# Altium schematic symbol library kmilo17pet-PIC16_Part2.SchLib: 1569 symbols (part 51 of 56)
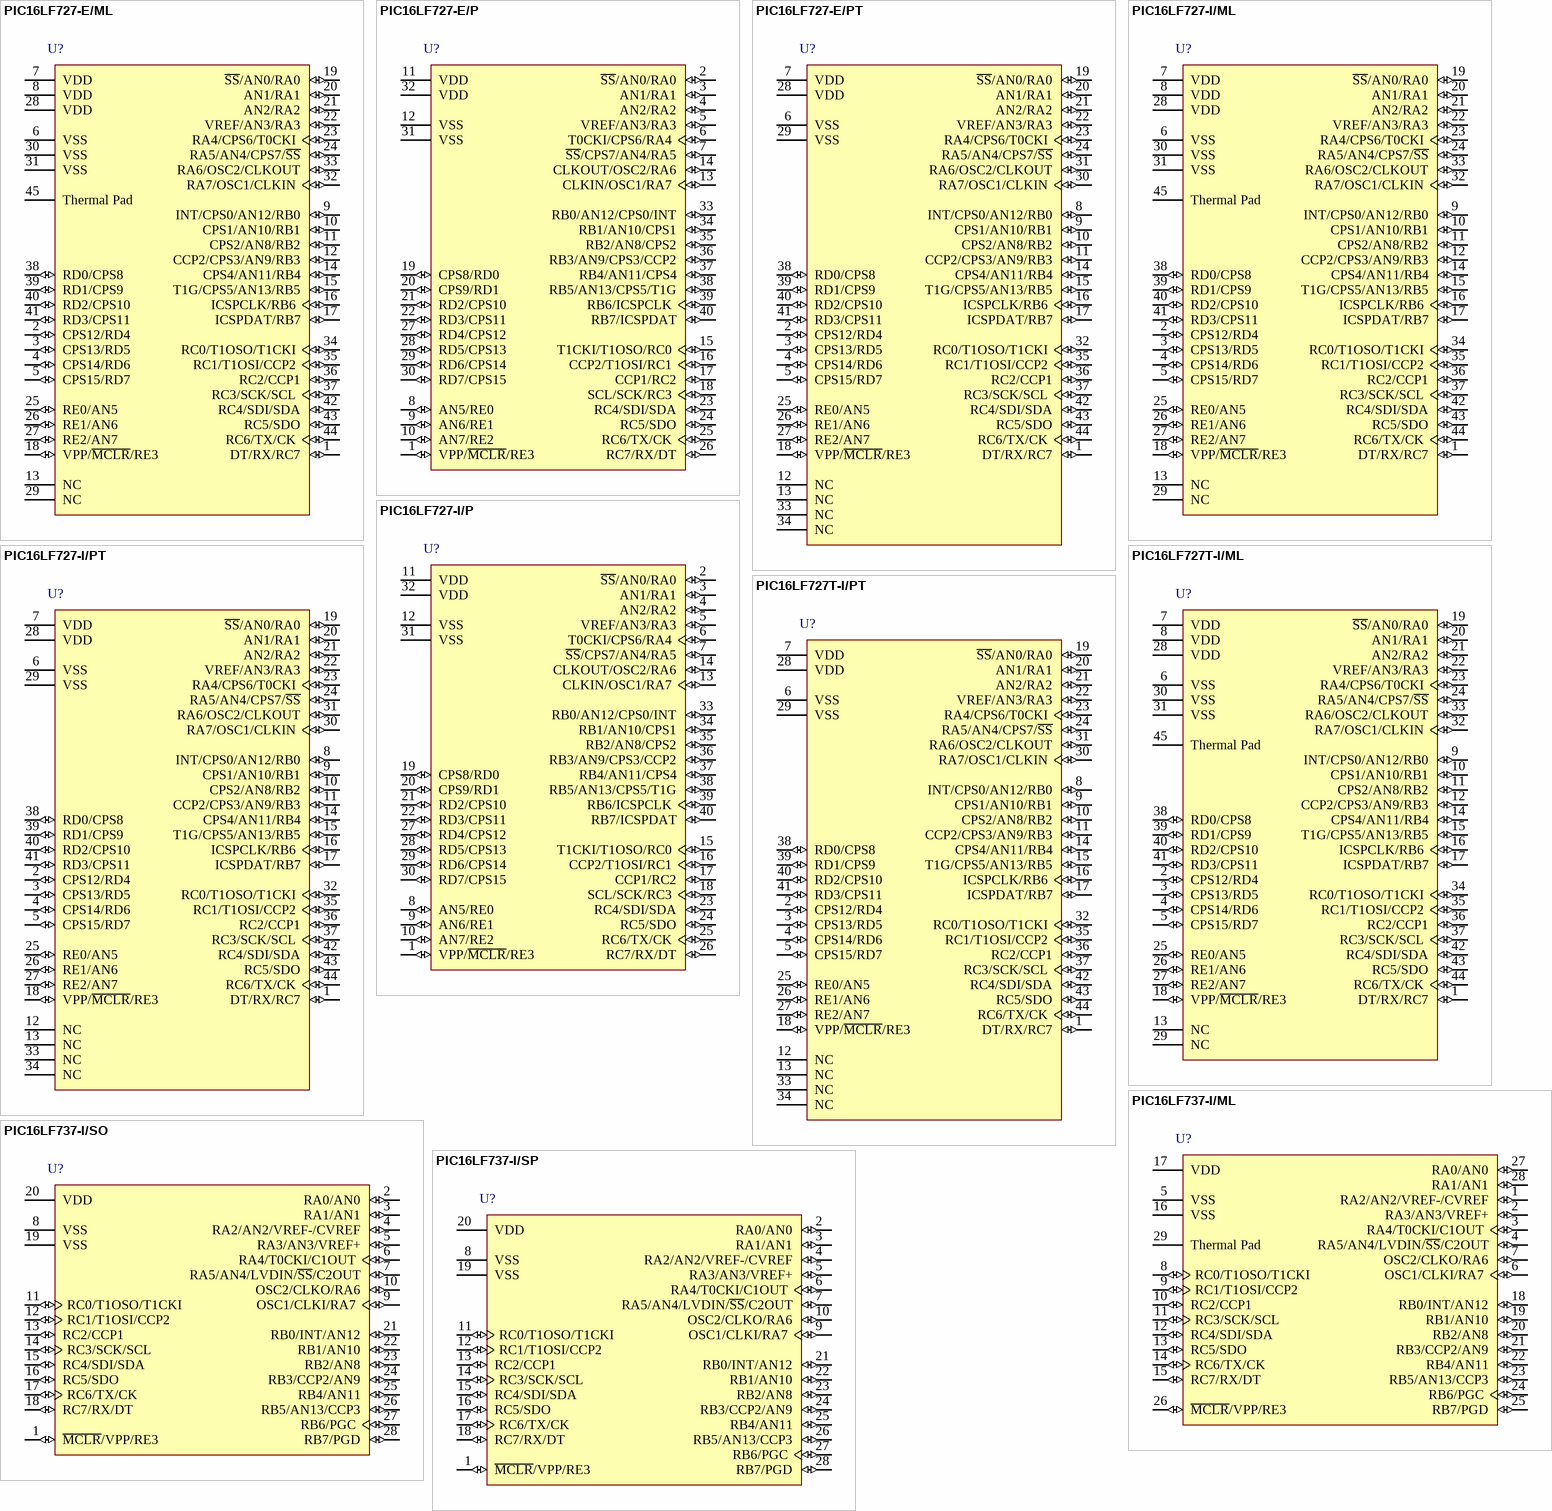
[diagram p175: symbols PIC16LF727-E/ML to PIC16LF737-I/SP]

## PIC16LF737-I/SP
designator U?
8-Bit CMOS FLASH Microcontroller with 10-Bit A/D and nanoWatt Technology, 4K (x14-Bit words) FLASH, 368 Bytes SRAM, 28-Pin PDIP 300mil, Extended VDD Range, Industrial Temperature; Manufacturer: Microchip; PartNumber: PIC16LF737-I/SP; Note: RB3 is the alternate pin for the CCP2 pin multiplexing.; DatasheetVersion: revC, Oct-2004; PackageVersion: revBB, Aug-2009; PackageReference: SPDIP300-SP28; PackageDescription: 28-Lead Skinny Plastic Dual In-Line (SP) - 300 mil Body [SPDIP]; Supplier 1: Digi-Key; Supplier Part Number 1: PIC16LF737-I/SP-ND; Supplier 2: Mouser; Supplier Part Number 2: 579-PIC16LF737-I/SP; ComponentLink1Description: Manufacturer URL; ComponentLink1URL: http://www.microchip.com/; ComponentLink2Description: Datasheet; ComponentLink2URL: http://ww1.microchip.com/downloads/en/DeviceDoc/30498c.pdf; ComponentLink3Description: Package Specification; ComponentLink3URL: http://www.microchip.com/stellent/groups/techpub_sg/documents/packagingspec/en012702.pdf
footprint SPDIP300-SP28 (DIP, 28-Leads, Row Spacing 7.62mm, Pitch 2.54mm, Body 34.9x6.8mm)
pins: 1 ~{MCLR}/VPP/RE3 (io), 2 RA0/AN0 (io), 3 RA1/AN1 (io), 4 RA2/AN2/VREF-/CVREF (io), 5 RA3/AN3/VREF+ (io), 6 RA4/T0CKI/C1OUT (io), 7 RA5/AN4/LVDIN/~{SS}/C2OUT (io), 8 VSS (power), 9 OSC1/CLKI/RA7 (io), 10 OSC2/CLKO/RA6 (io), 11 RC0/T1OSO/T1CKI (io), 12 RC1/T1OSI/CCP2 (io), 13 RC2/CCP1 (io), 14 RC3/SCK/SCL (io), 15 RC4/SDI/SDA (io), 16 RC5/SDO (io), 17 RC6/TX/CK (io), 18 RC7/RX/DT (io), 19 VSS (power), 20 VDD (power), 21 RB0/INT/AN12 (io), 22 RB1/AN10 (io), 23 RB2/AN8 (io), 24 RB3/CCP2/AN9 (io), 25 RB4/AN11 (io), 26 RB5/AN13/CCP3 (io), 27 RB6/PGC (io), 28 RB7/PGD (io)

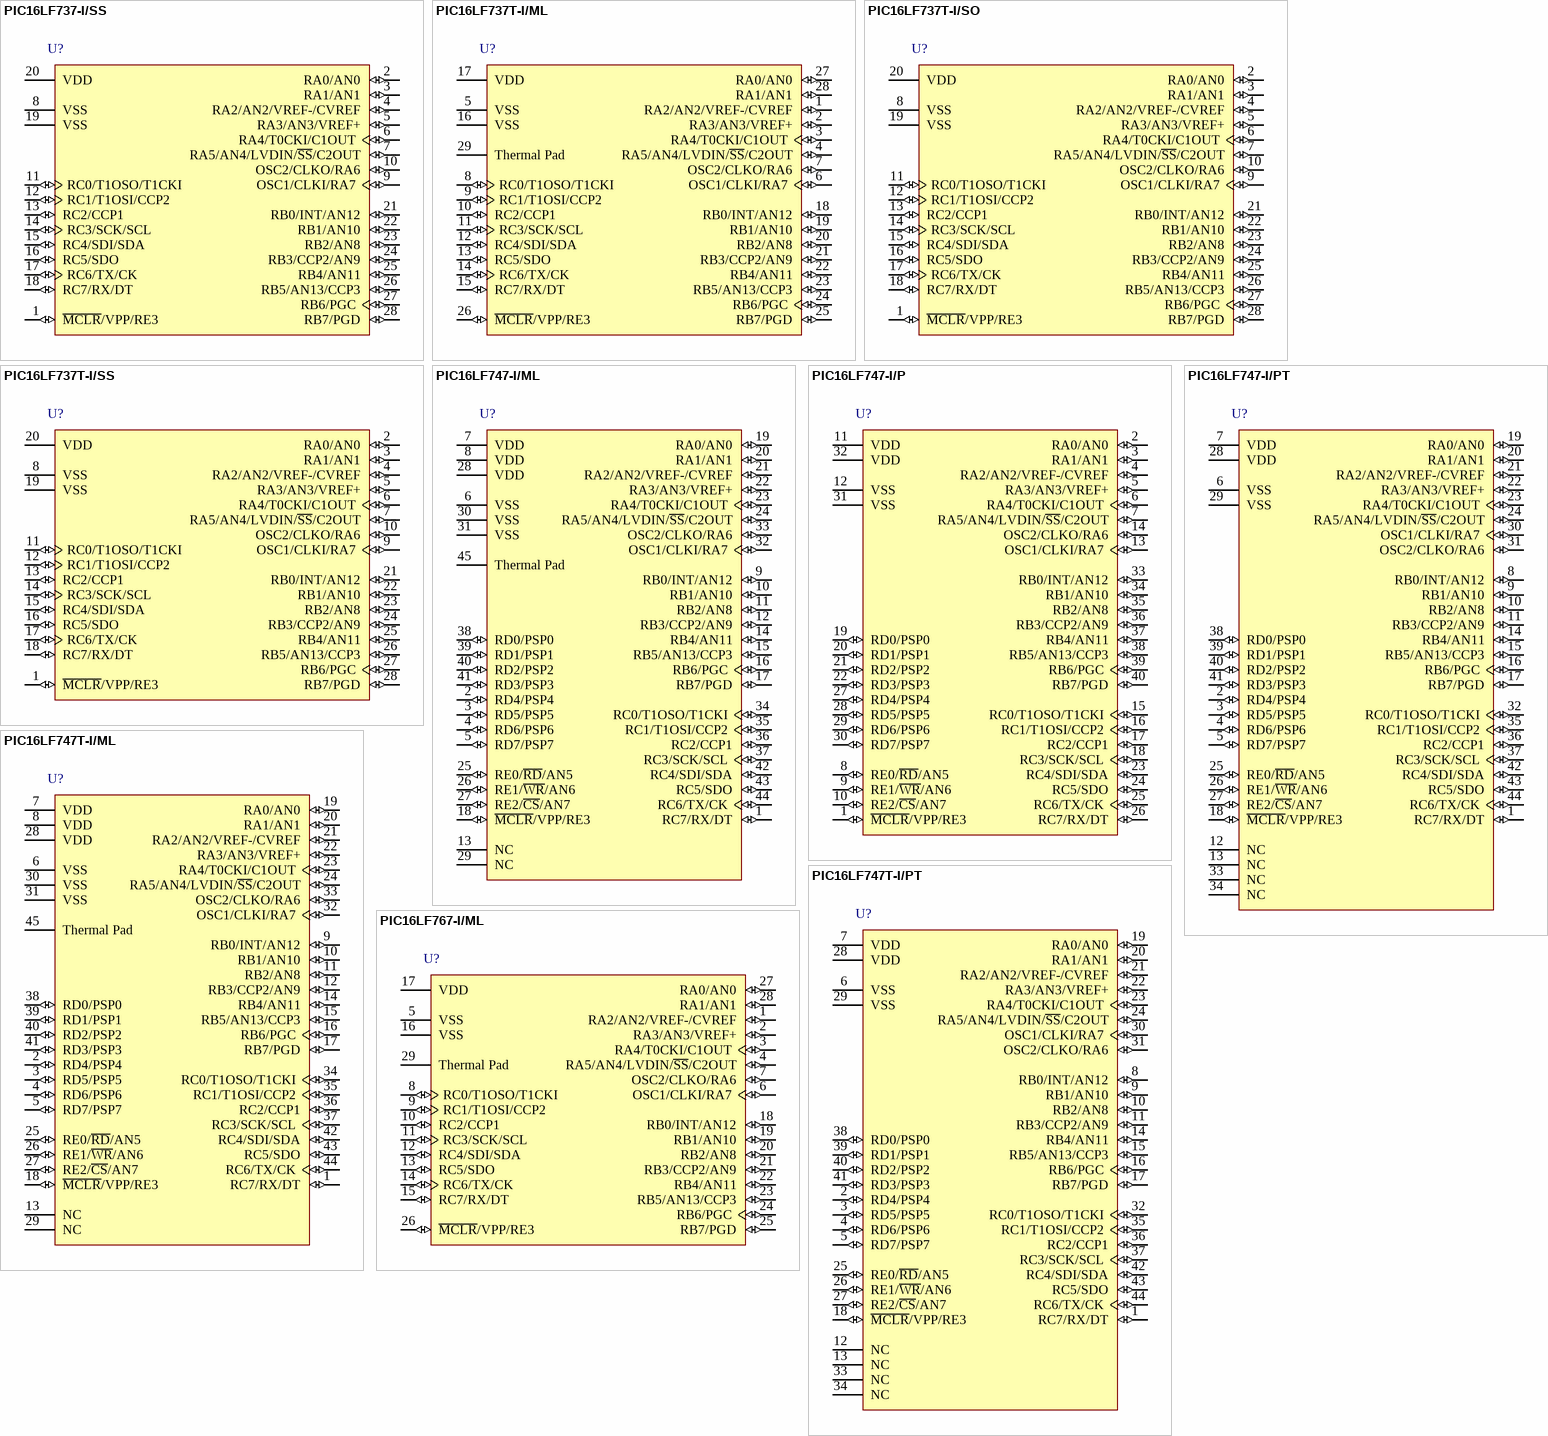
[diagram p109: symbols PIC16LF737-I/SS to PIC16LF767-I/ML]

## PIC16LF737-I/SS
designator U?
8-Bit CMOS FLASH Microcontroller with 10-Bit A/D and nanoWatt Technology, 4K (x14-Bit words) FLASH, 368 Bytes SRAM, 28-Pin SSOP, Extended VDD Range, Industrial Temperature; Manufacturer: Microchip; PartNumber: PIC16LF737-I/SS; DatasheetVersion: revC, Oct-2004; PackageVersion: revBB, Aug-2009; PackageReference: SSOP-SS28; PackageDescription: 28-Lead Plastic Shrink Small Outline (SS) - 5.3mm Body [SSOP]; Supplier 1: Digi-Key; Supplier Part Number 1: PIC16LF737-I/SS-ND; Supplier 2: Farnell; Supplier Part Number 2: 1847309; Supplier 3: Newark; Supplier Part Number 3: 61H5216; Supplier 4: Mouser; Supplier Part Number 4: 579-PIC16LF737-I/SS; Code_JEDEC: MS-150; ComponentLink1Description: Manufacturer URL; ComponentLink1URL: http://www.microchip.com/; ComponentLink2Description: Datasheet; ComponentLink2URL: http://ww1.microchip.com/downloads/en/DeviceDoc/30498c.pdf; ComponentLink3Description: Package Specification; ComponentLink3URL: http://www.microchip.com/stellent/groups/techpub_sg/documents/packagingspec/en012702.pdf
footprint SSOP-SS28_N (SOP, 28-Leads, Body 10.2x5.2mm, Pitch 0.65mm, IPC Medium Density)
footprint SSOP-SS28_L (SOP, 28-Leads, Body 10.2x5.2mm, Pitch 0.65mm, IPC High Density)
footprint SSOP-SS28_M (SOP, 28-Leads, Body 10.2x5.2mm, Pitch 0.65mm, IPC Low Density)
pins: 1 ~{MCLR}/VPP/RE3 (io), 2 RA0/AN0 (io), 3 RA1/AN1 (io), 4 RA2/AN2/VREF-/CVREF (io), 5 RA3/AN3/VREF+ (io), 6 RA4/T0CKI/C1OUT (io), 7 RA5/AN4/LVDIN/~{SS}/C2OUT (io), 8 VSS (power), 9 OSC1/CLKI/RA7 (io), 10 OSC2/CLKO/RA6 (io), 11 RC0/T1OSO/T1CKI (io), 12 RC1/T1OSI/CCP2 (io), 13 RC2/CCP1 (io), 14 RC3/SCK/SCL (io), 15 RC4/SDI/SDA (io), 16 RC5/SDO (io), 17 RC6/TX/CK (io), 18 RC7/RX/DT (io), 19 VSS (power), 20 VDD (power), 21 RB0/INT/AN12 (io), 22 RB1/AN10 (io), 23 RB2/AN8 (io), 24 RB3/CCP2/AN9 (io), 25 RB4/AN11 (io), 26 RB5/AN13/CCP3 (io), 27 RB6/PGC (io), 28 RB7/PGD (io)

## PIC16LF737T-I/ML
designator U?
8-Bit CMOS Flash Microcontroller with 10-Bit A/D and nanoWatt Technology, 4K (x14-Bit words) Program Memory, 368 Bytes Data Memory, 25 I/O pins, 28-Pin QFN, Extended VDD Range, Industrial Temperature, Tape and Reel; Manufacturer: Microchip; PartNumber: PIC16LF737T-I/ML; Note: RB3 is the alternate pin for the CCP2 pin multiplexing.; DatasheetVersion: revC, Oct-2004; PackageVersion: revBB, Aug-2009; PackageReference: QFN-ML28; PackageDescription: 28-Lead Plastic Quad Flat, No Lead Package (ML) - 6x6 mm Body [QFN] with 0.55 mm Contact Length; Supplier 1: Digi-Key; Supplier Part Number 1: PIC16LF737T-I/ML-ND; Supplier 2: Mouser; Supplier Part Number 2: 579-PIC16LF737T-I/ML; Code_JEDEC: MO-220; ComponentLink1Description: Manufacturer URL; ComponentLink1URL: http://www.microchip.com/; ComponentLink2Description: Datasheet; ComponentLink2URL: http://ww1.microchip.com/downloads/en/DeviceDoc/30498c.pdf; ComponentLink3Description: Package Specification; ComponentLink3URL: http://www.microchip.com/stellent/groups/techpub_sg/documents/packagingspec/en012702.pdf
footprint QFN-ML28_N (QFN, 28-Leads, Body 6x6mm, Pitch 0.65mm, Thermal Pad 4.2x4.2mm, IPC Medium Density)
footprint QFN-ML28_L (QFN, 28-Leads, Body 6x6mm, Pitch 0.65mm, Thermal Pad 4.2x4.2mm, IPC High Density)
footprint QFN-ML28_M (QFN, 28-Leads, Body 6x6mm, Pitch 0.65mm, Thermal Pad 4.2x4.2mm, IPC Low Density)
pins: 1 RA2/AN2/VREF-/CVREF (io), 2 RA3/AN3/VREF+ (io), 3 RA4/T0CKI/C1OUT (io), 4 RA5/AN4/LVDIN/~{SS}/C2OUT (io), 5 VSS (power), 6 OSC1/CLKI/RA7 (io), 7 OSC2/CLKO/RA6 (io), 8 RC0/T1OSO/T1CKI (io), 9 RC1/T1OSI/CCP2 (io), 10 RC2/CCP1 (io), 11 RC3/SCK/SCL (io), 12 RC4/SDI/SDA (io), 13 RC5/SDO (io), 14 RC6/TX/CK (io), 15 RC7/RX/DT (io), 16 VSS (power), 17 VDD (power), 18 RB0/INT/AN12 (io), 19 RB1/AN10 (io), 20 RB2/AN8 (io), 21 RB3/CCP2/AN9 (io), 22 RB4/AN11 (io), 23 RB5/AN13/CCP3 (io), 24 RB6/PGC (io), 25 RB7/PGD (io), 26 ~{MCLR}/VPP/RE3 (io), 27 RA0/AN0 (io), 28 RA1/AN1 (io), 29 Thermal Pad

## PIC16LF737T-I/SO
designator U?
8-Bit CMOS FLASH Microcontroller with 10-Bit A/D and nanoWatt Technology, 4K (x14-Bit words) FLASH, 368 Bytes SRAM, 28-Pin SOIC, Extended VDD Range, Industrial Temperature, Tape and Reel; Manufacturer: Microchip; PartNumber: PIC16LF737T-I/SO; Note: RB3 is the alternate pin for the CCP2 pin multiplexing.; DatasheetVersion: revC, Oct-2004; PackageVersion: revBB, Aug-2009; PackageReference: SOIC-SO28; PackageDescription: 28-Lead Plastic Small Outline (SO) - Wide 7.50mm Body [SOIC]; Supplier 1: Digi-Key; Supplier Part Number 1: PIC16LF737T-I/SO-ND; Supplier 2: Mouser; Supplier Part Number 2: 579-PIC16LF737T-I/SO; Code_JEDEC: MS-013; ComponentLink1Description: Manufacturer URL; ComponentLink1URL: http://www.microchip.com/; ComponentLink2Description: Datasheet; ComponentLink2URL: http://ww1.microchip.com/downloads/en/DeviceDoc/30498c.pdf; ComponentLink3Description: Package Specification; ComponentLink3URL: http://www.microchip.com/stellent/groups/techpub_sg/documents/packagingspec/en012702.pdf
footprint SOIC-SO28_N (SOIC, 28-Leads, Body 17.9x7.5mm, Pitch 1.27mm, IPC Medium Density)
footprint SOIC-SO28_L (SOIC, 28-Leads, Body 17.9x7.5mm, Pitch 1.27mm, IPC High Density)
footprint SOIC-SO28_M (SOIC, 28-Leads, Body 17.9x7.5mm, Pitch 1.27mm, IPC Low Density)
pins: 1 ~{MCLR}/VPP/RE3 (io), 2 RA0/AN0 (io), 3 RA1/AN1 (io), 4 RA2/AN2/VREF-/CVREF (io), 5 RA3/AN3/VREF+ (io), 6 RA4/T0CKI/C1OUT (io), 7 RA5/AN4/LVDIN/~{SS}/C2OUT (io), 8 VSS (power), 9 OSC1/CLKI/RA7 (io), 10 OSC2/CLKO/RA6 (io), 11 RC0/T1OSO/T1CKI (io), 12 RC1/T1OSI/CCP2 (io), 13 RC2/CCP1 (io), 14 RC3/SCK/SCL (io), 15 RC4/SDI/SDA (io), 16 RC5/SDO (io), 17 RC6/TX/CK (io), 18 RC7/RX/DT (io), 19 VSS (power), 20 VDD (power), 21 RB0/INT/AN12 (io), 22 RB1/AN10 (io), 23 RB2/AN8 (io), 24 RB3/CCP2/AN9 (io), 25 RB4/AN11 (io), 26 RB5/AN13/CCP3 (io), 27 RB6/PGC (io), 28 RB7/PGD (io)

## PIC16LF737T-I/SS
designator U?
8-Bit CMOS FLASH Microcontroller with 10-Bit A/D and nanoWatt Technology, 4K (x14-Bit words) FLASH, 368 Bytes SRAM, 28-Pin SSOP, Extended VDD Range, Industrial Temperature, Tape and Reel; Manufacturer: Microchip; PartNumber: PIC16LF737T-I/SS; DatasheetVersion: revC, Oct-2004; PackageVersion: revBB, Aug-2009; PackageReference: SSOP-SS28; PackageDescription: 28-Lead Plastic Shrink Small Outline (SS) - 5.3mm Body [SSOP]; Supplier 1: Digi-Key; Supplier Part Number 1: PIC16LF737T-I/SS-ND; Supplier 2: Mouser; Supplier Part Number 2: 579-PIC16LF737T-I/SS; Code_JEDEC: MS-150; ComponentLink1Description: Manufacturer URL; ComponentLink1URL: http://www.microchip.com/; ComponentLink2Description: Datasheet; ComponentLink2URL: http://ww1.microchip.com/downloads/en/DeviceDoc/30498c.pdf; ComponentLink3Description: Package Specification; ComponentLink3URL: http://www.microchip.com/stellent/groups/techpub_sg/documents/packagingspec/en012702.pdf
footprint SSOP-SS28_N (SOP, 28-Leads, Body 10.2x5.2mm, Pitch 0.65mm, IPC Medium Density)
footprint SSOP-SS28_L (SOP, 28-Leads, Body 10.2x5.2mm, Pitch 0.65mm, IPC High Density)
footprint SSOP-SS28_M (SOP, 28-Leads, Body 10.2x5.2mm, Pitch 0.65mm, IPC Low Density)
pins: 1 ~{MCLR}/VPP/RE3 (io), 2 RA0/AN0 (io), 3 RA1/AN1 (io), 4 RA2/AN2/VREF-/CVREF (io), 5 RA3/AN3/VREF+ (io), 6 RA4/T0CKI/C1OUT (io), 7 RA5/AN4/LVDIN/~{SS}/C2OUT (io), 8 VSS (power), 9 OSC1/CLKI/RA7 (io), 10 OSC2/CLKO/RA6 (io), 11 RC0/T1OSO/T1CKI (io), 12 RC1/T1OSI/CCP2 (io), 13 RC2/CCP1 (io), 14 RC3/SCK/SCL (io), 15 RC4/SDI/SDA (io), 16 RC5/SDO (io), 17 RC6/TX/CK (io), 18 RC7/RX/DT (io), 19 VSS (power), 20 VDD (power), 21 RB0/INT/AN12 (io), 22 RB1/AN10 (io), 23 RB2/AN8 (io), 24 RB3/CCP2/AN9 (io), 25 RB4/AN11 (io), 26 RB5/AN13/CCP3 (io), 27 RB6/PGC (io), 28 RB7/PGD (io)

## PIC16LF747-I/ML
designator U?
8-Bit CMOS FLASH Microcontroller with 10-Bit A/D and nanoWatt Technology, 4K (x14-Bit words) FLASH, 368 Bytes SRAM, 44-Pin QFN, Extended VDD Range, Industrial Temperature; Manufacturer: Microchip; PartNumber: PIC16LF747-I/ML; Note: RB3 is the alternate pin for the CCP2 pin multiplexing.; DatasheetVersion: revC, Oct-2004; PackageVersion: revBB, Aug-2009; PackageReference: QFN-ML44; PackageDescription: 44-Lead Plastic Quad Flat, No Lead Package (ML) - 8x8 mm Body [QFN]; Supplier 1: Digi-Key; Supplier Part Number 1: PIC16LF747-I/ML-ND; Supplier 2: Mouser; Supplier Part Number 2: 579-PIC16LF747-I/ML; Code_JEDEC: MO-220; Code_IPC: QFN65P800X800-44V2; ComponentLink1Description: Manufacturer URL; ComponentLink1URL: http://www.microchip.com/; ComponentLink2Description: Datasheet; ComponentLink2URL: http://ww1.microchip.com/downloads/en/DeviceDoc/30498c.pdf; ComponentLink3Description: Package Specification; ComponentLink3URL: http://www.microchip.com/stellent/groups/techpub_sg/documents/packagingspec/en012702.pdf
footprint QFN-ML44_N (QFN, 44-Leads, Body 8x8mm, Pitch 0.65mm, Thermal Pad 6.8x6.8mm, IPC Medium Density)
footprint QFN-ML44_L (QFN, 44-Leads, Body 8x8mm, Pitch 0.65mm, Thermal Pad 6.8x6.8mm, IPC High Density)
footprint QFN-ML44_M (QFN, 44-Leads, Body 8x8mm, Pitch 0.65mm, Thermal Pad 6.8x6.8mm, IPC Low Density)
pins: 1 RC7/RX/DT (io), 2 RD4/PSP4 (io), 3 RD5/PSP5 (io), 4 RD6/PSP6 (io), 5 RD7/PSP7 (io), 6 VSS (power), 7 VDD (power), 8 VDD (power), 9 RB0/INT/AN12 (io), 10 RB1/AN10 (io), 11 RB2/AN8 (io), 12 RB3/CCP2/AN9 (io), 13 NC, 14 RB4/AN11 (io), 15 RB5/AN13/CCP3 (io), 16 RB6/PGC (io), 17 RB7/PGD (io), 18 ~{MCLR}/VPP/RE3 (io), 19 RA0/AN0 (io), 20 RA1/AN1 (io), 21 RA2/AN2/VREF-/CVREF (io), 22 RA3/AN3/VREF+ (io), 23 RA4/T0CKI/C1OUT (io), 24 RA5/AN4/LVDIN/~{SS}/C2OUT (io), 25 RE0/~{RD}/AN5 (io), 26 RE1/~{WR}/AN6 (io), 27 RE2/~{CS}/AN7 (io), 28 VDD (power), 29 NC, 30 VSS (power), 31 VSS (power), 32 OSC1/CLKI/RA7 (io), 33 OSC2/CLKO/RA6 (io), 34 RC0/T1OSO/T1CKI (io), 35 RC1/T1OSI/CCP2 (io), 36 RC2/CCP1 (io), 37 RC3/SCK/SCL (io), 38 RD0/PSP0 (io), 39 RD1/PSP1 (io), 40 RD2/PSP2 (io), 41 RD3/PSP3 (io), 42 RC4/SDI/SDA (io), 43 RC5/SDO (io), 44 RC6/TX/CK (io), 45 Thermal Pad

## PIC16LF747-I/P
designator U?
8-Bit CMOS FLASH Microcontroller with 10-Bit A/D and nanoWatt Technology, 4K (x14-Bit words) FLASH, 368 Bytes SRAM, 40-Pin PDIP, Extended VDD Range, Industrial Temperature; Manufacturer: Microchip; PartNumber: PIC16LF747-I/P; Note: RB3 is the alternate pin for the CCP2 pin multiplexing.; DatasheetVersion: revC, Oct-2004; PackageVersion: revBB, Aug-2009; PackageReference: PDIP600-P40; PackageDescription: 40-Lead Plastic Dual In-Line (P) - 600 mil Body [PDIP]; Supplier 1: Digi-Key; Supplier Part Number 1: PIC16LF747-I/P-ND; Supplier 2: Mouser; Supplier Part Number 2: 579-PIC16LF747-I/P; ComponentLink1Description: Manufacturer URL; ComponentLink1URL: http://www.microchip.com/; ComponentLink2Description: Datasheet; ComponentLink2URL: http://ww1.microchip.com/downloads/en/DeviceDoc/30498c.pdf; ComponentLink3Description: Package Specification; ComponentLink3URL: http://www.microchip.com/stellent/groups/techpub_sg/documents/packagingspec/en012702.pdf
footprint PDIP600-P40 (DIP, 40-Leads, Row Spacing 15.24mm, Pitch 2.54mm, Body 51.8x13.5mm)
pins: 1 ~{MCLR}/VPP/RE3 (io), 2 RA0/AN0 (io), 3 RA1/AN1 (io), 4 RA2/AN2/VREF-/CVREF (io), 5 RA3/AN3/VREF+ (io), 6 RA4/T0CKI/C1OUT (io), 7 RA5/AN4/LVDIN/~{SS}/C2OUT (io), 8 RE0/~{RD}/AN5 (io), 9 RE1/~{WR}/AN6 (io), 10 RE2/~{CS}/AN7 (io), 11 VDD (power), 12 VSS (power), 13 OSC1/CLKI/RA7 (io), 14 OSC2/CLKO/RA6 (io), 15 RC0/T1OSO/T1CKI (io), 16 RC1/T1OSI/CCP2 (io), 17 RC2/CCP1 (io), 18 RC3/SCK/SCL (io), 19 RD0/PSP0 (io), 20 RD1/PSP1 (io), 21 RD2/PSP2 (io), 22 RD3/PSP3 (io), 23 RC4/SDI/SDA (io), 24 RC5/SDO (io), 25 RC6/TX/CK (io), 26 RC7/RX/DT (io), 27 RD4/PSP4 (io), 28 RD5/PSP5 (io), 29 RD6/PSP6 (io), 30 RD7/PSP7 (io), 31 VSS (power), 32 VDD (power), 33 RB0/INT/AN12 (io), 34 RB1/AN10 (io), 35 RB2/AN8 (io), 36 RB3/CCP2/AN9 (io), 37 RB4/AN11 (io), 38 RB5/AN13/CCP3 (io), 39 RB6/PGC (io), 40 RB7/PGD (io)

## PIC16LF747-I/PT
designator U?
8-Bit CMOS FLASH Microcontroller with 10-Bit A/D and nanoWatt Technology, 4K (x14-Bit words) FLASH, 368 Bytes SRAM, 44-Pin TQFP, Extended VDD Range, Industrial Temperature; Manufacturer: Microchip; PartNumber: PIC16LF747-I/PT; DatasheetVersion: revC, Oct-2004; PackageVersion: revBB, Aug-2009; PackageReference: TQFP-PT44; PackageDescription: 44-Lead Plastic Thin Quad Flatpack (PT) - 10x10x1mm Body, 2.00mm [TQFP]; Supplier 1: Digi-Key; Supplier Part Number 1: PIC16LF747-I/PT-ND; Supplier 2: Mouser; Supplier Part Number 2: 579-PIC16LF747-I/PT; Code_JEDEC: MS-026; ComponentLink1Description: Manufacturer URL; ComponentLink1URL: http://www.microchip.com/; ComponentLink2Description: Datasheet; ComponentLink2URL: http://ww1.microchip.com/downloads/en/DeviceDoc/30498c.pdf; ComponentLink3Description: Package Specification; ComponentLink3URL: http://www.microchip.com/stellent/groups/techpub_sg/documents/packagingspec/en012702.pdf
footprint TQFP-PT44_N (Thin QFP, 44-Leads, Body 10x10mm, Pitch 0.8mm, IPC Medium Density)
footprint TQFP-PT44_L (Thin QFP, 44-Leads, Body 10x10mm, Pitch 0.8mm, IPC High Density)
footprint TQFP-PT44_M (Thin QFP, 44-Leads, Body 10x10mm, Pitch 0.8mm, IPC Low Density)
pins: 1 RC7/RX/DT (io), 2 RD4/PSP4 (io), 3 RD5/PSP5 (io), 4 RD6/PSP6 (io), 5 RD7/PSP7 (io), 6 VSS (power), 7 VDD (power), 8 RB0/INT/AN12 (io), 9 RB1/AN10 (io), 10 RB2/AN8 (io), 11 RB3/CCP2/AN9 (io), 12 NC, 13 NC, 14 RB4/AN11 (io), 15 RB5/AN13/CCP3 (io), 16 RB6/PGC (io), 17 RB7/PGD (io), 18 ~{MCLR}/VPP/RE3 (io), 19 RA0/AN0 (io), 20 RA1/AN1 (io), 21 RA2/AN2/VREF-/CVREF (io), 22 RA3/AN3/VREF+ (io), 23 RA4/T0CKI/C1OUT (io), 24 RA5/AN4/LVDIN/~{SS}/C2OUT (io), 25 RE0/~{RD}/AN5 (io), 26 RE1/~{WR}/AN6 (io), 27 RE2/~{CS}/AN7 (io), 28 VDD (power), 29 VSS (power), 30 OSC1/CLKI/RA7 (io), 31 OSC2/CLKO/RA6 (io), 32 RC0/T1OSO/T1CKI (io), 33 NC, 34 NC, 35 RC1/T1OSI/CCP2 (io), 36 RC2/CCP1 (io), 37 RC3/SCK/SCL (io), 38 RD0/PSP0 (io), 39 RD1/PSP1 (io), 40 RD2/PSP2 (io), 41 RD3/PSP3 (io), 42 RC4/SDI/SDA (io), 43 RC5/SDO (io), 44 RC6/TX/CK (io)

## PIC16LF747T-I/ML
designator U?
8-Bit CMOS Flash Microcontroller with 10-Bit A/D and nanoWatt Technology, 4K (x14-Bit words) Program Memory, 368 Bytes Data Memory, 36 I/O pins, 44-Pin QFN, Extended VDD Range, Industrial Temperature, Tape and Reel; Manufacturer: Microchip; PartNumber: PIC16LF747T-I/ML; Note: RB3 is the alternate pin for the CCP2 pin multiplexing.; DatasheetVersion: revC, Oct-2004; PackageVersion: revBB, Aug-2009; PackageReference: QFN-ML44; PackageDescription: 44-Lead Plastic Quad Flat, No Lead Package (ML) - 8x8 mm Body [QFN]; Supplier 1: Digi-Key; Supplier Part Number 1: PIC16LF747T-I/ML-ND; Supplier 2: Mouser; Supplier Part Number 2: 579-PIC16LF747T-I/ML; Code_JEDEC: MO-220; Code_IPC: QFN65P800X800-44V2; ComponentLink1Description: Manufacturer URL; ComponentLink1URL: http://www.microchip.com/; ComponentLink2Description: Datasheet; ComponentLink2URL: http://ww1.microchip.com/downloads/en/DeviceDoc/30498c.pdf; ComponentLink3Description: Package Specification; ComponentLink3URL: http://www.microchip.com/stellent/groups/techpub_sg/documents/packagingspec/en012702.pdf
footprint QFN-ML44_N (QFN, 44-Leads, Body 8x8mm, Pitch 0.65mm, Thermal Pad 6.8x6.8mm, IPC Medium Density)
footprint QFN-ML44_L (QFN, 44-Leads, Body 8x8mm, Pitch 0.65mm, Thermal Pad 6.8x6.8mm, IPC High Density)
footprint QFN-ML44_M (QFN, 44-Leads, Body 8x8mm, Pitch 0.65mm, Thermal Pad 6.8x6.8mm, IPC Low Density)
pins: 1 RC7/RX/DT (io), 2 RD4/PSP4 (io), 3 RD5/PSP5 (io), 4 RD6/PSP6 (io), 5 RD7/PSP7 (io), 6 VSS (power), 7 VDD (power), 8 VDD (power), 9 RB0/INT/AN12 (io), 10 RB1/AN10 (io), 11 RB2/AN8 (io), 12 RB3/CCP2/AN9 (io), 13 NC, 14 RB4/AN11 (io), 15 RB5/AN13/CCP3 (io), 16 RB6/PGC (io), 17 RB7/PGD (io), 18 ~{MCLR}/VPP/RE3 (io), 19 RA0/AN0 (io), 20 RA1/AN1 (io), 21 RA2/AN2/VREF-/CVREF (io), 22 RA3/AN3/VREF+ (io), 23 RA4/T0CKI/C1OUT (io), 24 RA5/AN4/LVDIN/~{SS}/C2OUT (io), 25 RE0/~{RD}/AN5 (io), 26 RE1/~{WR}/AN6 (io), 27 RE2/~{CS}/AN7 (io), 28 VDD (power), 29 NC, 30 VSS (power), 31 VSS (power), 32 OSC1/CLKI/RA7 (io), 33 OSC2/CLKO/RA6 (io), 34 RC0/T1OSO/T1CKI (io), 35 RC1/T1OSI/CCP2 (io), 36 RC2/CCP1 (io), 37 RC3/SCK/SCL (io), 38 RD0/PSP0 (io), 39 RD1/PSP1 (io), 40 RD2/PSP2 (io), 41 RD3/PSP3 (io), 42 RC4/SDI/SDA (io), 43 RC5/SDO (io), 44 RC6/TX/CK (io), 45 Thermal Pad

## PIC16LF747T-I/PT
designator U?
8-Bit CMOS FLASH Microcontroller with 10-Bit A/D and nanoWatt Technology, 4K (x14-Bit words) FLASH, 368 Bytes SRAM, 44-Pin TQFP, Extended VDD Range, Industrial Temperature, Tape and Reel; Manufacturer: Microchip; PartNumber: PIC16LF747T-I/PT; DatasheetVersion: revC, Oct-2004; PackageVersion: revBB, Aug-2009; PackageReference: TQFP-PT44; PackageDescription: 44-Lead Plastic Thin Quad Flatpack (PT) - 10x10x1mm Body, 2.00mm [TQFP]; Supplier 1: Digi-Key; Supplier Part Number 1: PIC16LF747T-I/PT-ND; Supplier 2: Mouser; Supplier Part Number 2: 579-PIC16LF747T-I/PT; Code_JEDEC: MS-026; ComponentLink1Description: Manufacturer URL; ComponentLink1URL: http://www.microchip.com/; ComponentLink2Description: Datasheet; ComponentLink2URL: http://ww1.microchip.com/downloads/en/DeviceDoc/30498c.pdf; ComponentLink3Description: Package Specification; ComponentLink3URL: http://www.microchip.com/stellent/groups/techpub_sg/documents/packagingspec/en012702.pdf
footprint TQFP-PT44_N (Thin QFP, 44-Leads, Body 10x10mm, Pitch 0.8mm, IPC Medium Density)
footprint TQFP-PT44_L (Thin QFP, 44-Leads, Body 10x10mm, Pitch 0.8mm, IPC High Density)
footprint TQFP-PT44_M (Thin QFP, 44-Leads, Body 10x10mm, Pitch 0.8mm, IPC Low Density)
pins: 1 RC7/RX/DT (io), 2 RD4/PSP4 (io), 3 RD5/PSP5 (io), 4 RD6/PSP6 (io), 5 RD7/PSP7 (io), 6 VSS (power), 7 VDD (power), 8 RB0/INT/AN12 (io), 9 RB1/AN10 (io), 10 RB2/AN8 (io), 11 RB3/CCP2/AN9 (io), 12 NC, 13 NC, 14 RB4/AN11 (io), 15 RB5/AN13/CCP3 (io), 16 RB6/PGC (io), 17 RB7/PGD (io), 18 ~{MCLR}/VPP/RE3 (io), 19 RA0/AN0 (io), 20 RA1/AN1 (io), 21 RA2/AN2/VREF-/CVREF (io), 22 RA3/AN3/VREF+ (io), 23 RA4/T0CKI/C1OUT (io), 24 RA5/AN4/LVDIN/~{SS}/C2OUT (io), 25 RE0/~{RD}/AN5 (io), 26 RE1/~{WR}/AN6 (io), 27 RE2/~{CS}/AN7 (io), 28 VDD (power), 29 VSS (power), 30 OSC1/CLKI/RA7 (io), 31 OSC2/CLKO/RA6 (io), 32 RC0/T1OSO/T1CKI (io), 33 NC, 34 NC, 35 RC1/T1OSI/CCP2 (io), 36 RC2/CCP1 (io), 37 RC3/SCK/SCL (io), 38 RD0/PSP0 (io), 39 RD1/PSP1 (io), 40 RD2/PSP2 (io), 41 RD3/PSP3 (io), 42 RC4/SDI/SDA (io), 43 RC5/SDO (io), 44 RC6/TX/CK (io)

## PIC16LF767-I/ML
designator U?
8-Bit CMOS FLASH Microcontroller with 10-Bit A/D and nanoWatt Technology, 8K (x14-Bit words) FLASH, 368 Bytes SRAM, 28-Pin QFN, Extended VDD Range, Industrial Temperature; Manufacturer: Microchip; PartNumber: PIC16LF767-I/ML; Note: RB3 is the alternate pin for the CCP2 pin multiplexing.; DatasheetVersion: revC, Oct-2004; PackageVersion: revBB, Aug-2009; PackageReference: QFN-ML28; PackageDescription: 28-Lead Plastic Quad Flat, No Lead Package (ML) - 6x6 mm Body [QFN] with 0.55 mm Contact Length; Supplier 1: Digi-Key; Supplier Part Number 1: PIC16LF767-I/ML-ND; Supplier 2: Mouser; Supplier Part Number 2: 579-PIC16LF767-I/ML; Code_JEDEC: MO-220; ComponentLink1Description: Manufacturer URL; ComponentLink1URL: http://www.microchip.com/; ComponentLink2Description: Datasheet; ComponentLink2URL: http://ww1.microchip.com/downloads/en/DeviceDoc/30498c.pdf; ComponentLink3Description: Package Specification; ComponentLink3URL: http://www.microchip.com/stellent/groups/techpub_sg/documents/packagingspec/en012702.pdf
footprint QFN-ML28_N (QFN, 28-Leads, Body 6x6mm, Pitch 0.65mm, Thermal Pad 4.2x4.2mm, IPC Medium Density)
footprint QFN-ML28_L (QFN, 28-Leads, Body 6x6mm, Pitch 0.65mm, Thermal Pad 4.2x4.2mm, IPC High Density)
footprint QFN-ML28_M (QFN, 28-Leads, Body 6x6mm, Pitch 0.65mm, Thermal Pad 4.2x4.2mm, IPC Low Density)
pins: 1 RA2/AN2/VREF-/CVREF (io), 2 RA3/AN3/VREF+ (io), 3 RA4/T0CKI/C1OUT (io), 4 RA5/AN4/LVDIN/~{SS}/C2OUT (io), 5 VSS (power), 6 OSC1/CLKI/RA7 (io), 7 OSC2/CLKO/RA6 (io), 8 RC0/T1OSO/T1CKI (io), 9 RC1/T1OSI/CCP2 (io), 10 RC2/CCP1 (io), 11 RC3/SCK/SCL (io), 12 RC4/SDI/SDA (io), 13 RC5/SDO (io), 14 RC6/TX/CK (io), 15 RC7/RX/DT (io), 16 VSS (power), 17 VDD (power), 18 RB0/INT/AN12 (io), 19 RB1/AN10 (io), 20 RB2/AN8 (io), 21 RB3/CCP2/AN9 (io), 22 RB4/AN11 (io), 23 RB5/AN13/CCP3 (io), 24 RB6/PGC (io), 25 RB7/PGD (io), 26 ~{MCLR}/VPP/RE3 (io), 27 RA0/AN0 (io), 28 RA1/AN1 (io), 29 Thermal Pad

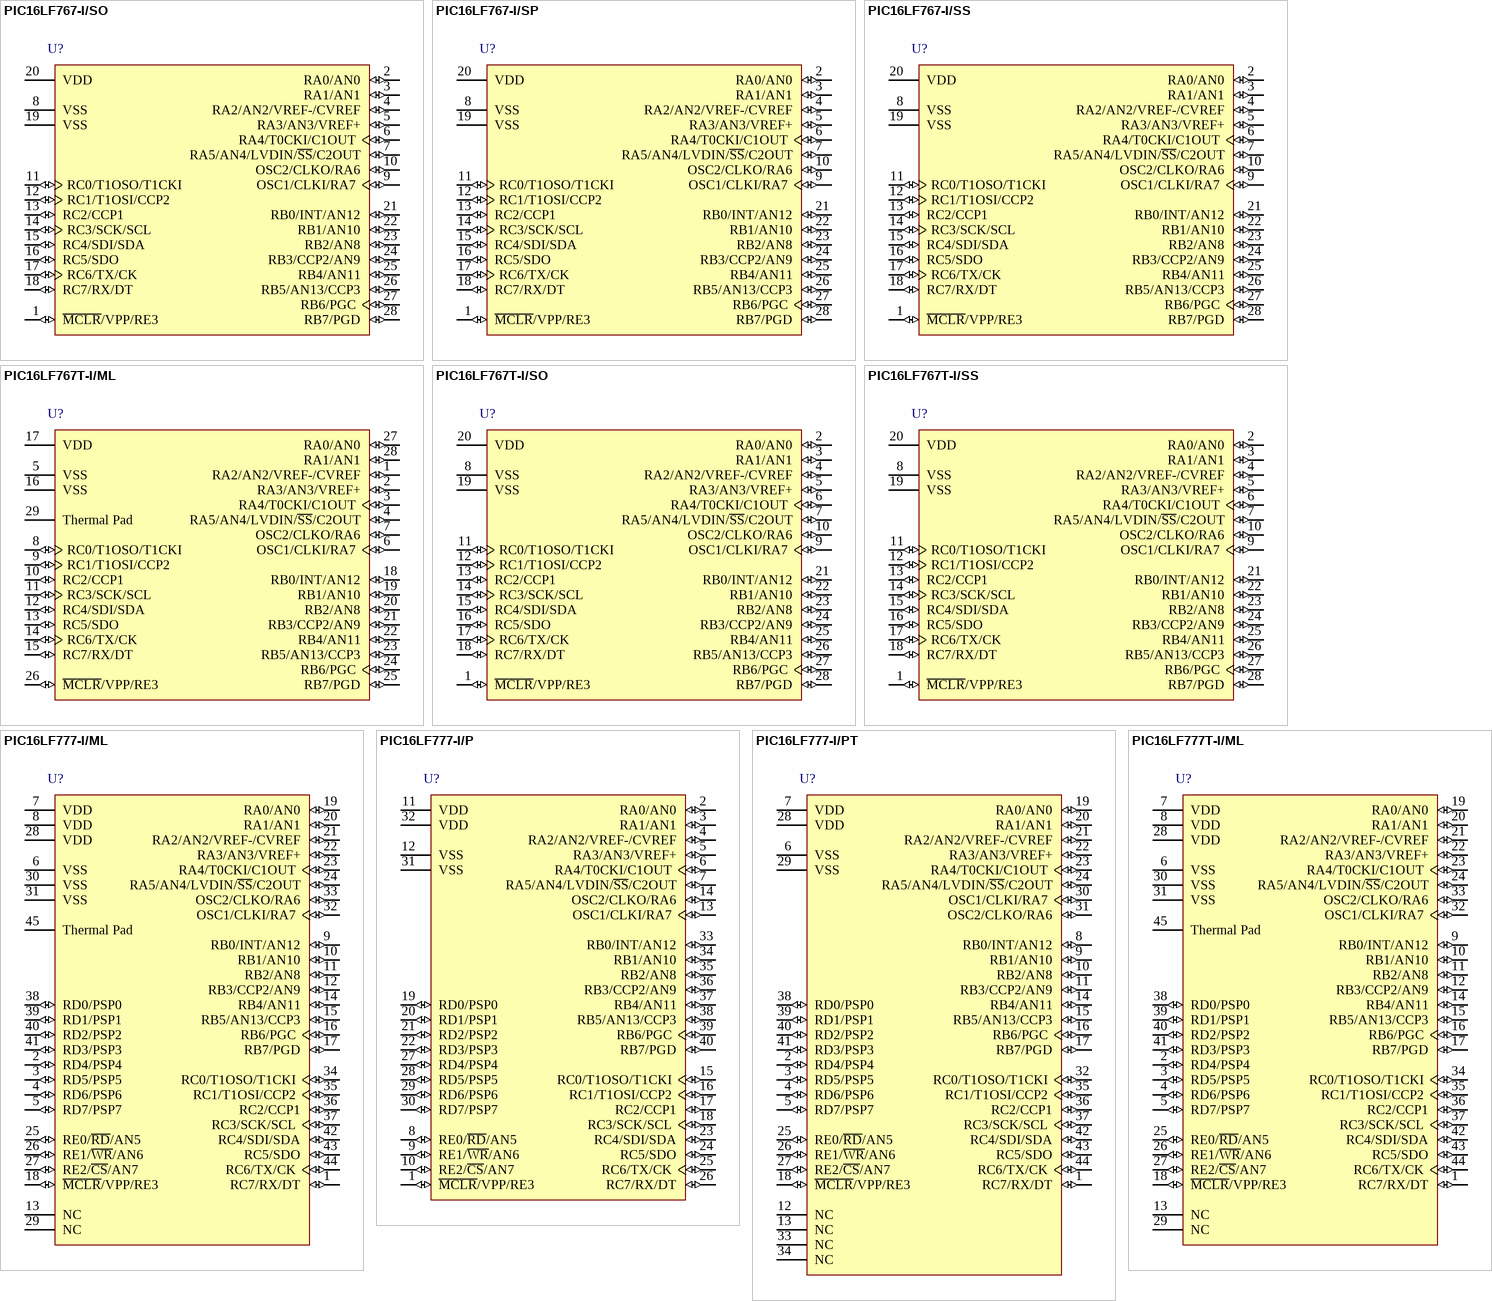
[diagram p110: symbols PIC16LF767-I/SO to PIC16LF777T-I/ML]

## PIC16LF767-I/SO
designator U?
8-Bit CMOS FLASH Microcontroller with 10-Bit A/D and nanoWatt Technology, 8K (x14-Bit words) FLASH, 368 Bytes SRAM, 28-Pin SOIC, Extended VDD Range, Industrial Temperature; Manufacturer: Microchip; PartNumber: PIC16LF767-I/SO; Note: RB3 is the alternate pin for the CCP2 pin multiplexing.; DatasheetVersion: revC, Oct-2004; PackageVersion: revBB, Aug-2009; PackageReference: SOIC-SO28; PackageDescription: 28-Lead Plastic Small Outline (SO) - Wide 7.50mm Body [SOIC]; Supplier 1: Digi-Key; Supplier Part Number 1: PIC16LF767-I/SO-ND; Supplier 2: Farnell; Supplier Part Number 2: 1847310; Supplier 3: Newark; Supplier Part Number 3: 61H5226; Supplier 4: Mouser; Supplier Part Number 4: 579-PIC16LF767-I/SO; Code_JEDEC: MS-013; ComponentLink1Description: Manufacturer URL; ComponentLink1URL: http://www.microchip.com/; ComponentLink2Description: Datasheet; ComponentLink2URL: http://ww1.microchip.com/downloads/en/DeviceDoc/30498c.pdf; ComponentLink3Description: Package Specification; ComponentLink3URL: http://www.microchip.com/stellent/groups/techpub_sg/documents/packagingspec/en012702.pdf
footprint SOIC-SO28_N (SOIC, 28-Leads, Body 17.9x7.5mm, Pitch 1.27mm, IPC Medium Density)
footprint SOIC-SO28_L (SOIC, 28-Leads, Body 17.9x7.5mm, Pitch 1.27mm, IPC High Density)
footprint SOIC-SO28_M (SOIC, 28-Leads, Body 17.9x7.5mm, Pitch 1.27mm, IPC Low Density)
pins: 1 ~{MCLR}/VPP/RE3 (io), 2 RA0/AN0 (io), 3 RA1/AN1 (io), 4 RA2/AN2/VREF-/CVREF (io), 5 RA3/AN3/VREF+ (io), 6 RA4/T0CKI/C1OUT (io), 7 RA5/AN4/LVDIN/~{SS}/C2OUT (io), 8 VSS (power), 9 OSC1/CLKI/RA7 (io), 10 OSC2/CLKO/RA6 (io), 11 RC0/T1OSO/T1CKI (io), 12 RC1/T1OSI/CCP2 (io), 13 RC2/CCP1 (io), 14 RC3/SCK/SCL (io), 15 RC4/SDI/SDA (io), 16 RC5/SDO (io), 17 RC6/TX/CK (io), 18 RC7/RX/DT (io), 19 VSS (power), 20 VDD (power), 21 RB0/INT/AN12 (io), 22 RB1/AN10 (io), 23 RB2/AN8 (io), 24 RB3/CCP2/AN9 (io), 25 RB4/AN11 (io), 26 RB5/AN13/CCP3 (io), 27 RB6/PGC (io), 28 RB7/PGD (io)

## PIC16LF767-I/SP
designator U?
8-Bit CMOS FLASH Microcontroller with 10-Bit A/D and nanoWatt Technology, 8K (x14-Bit words) FLASH, 368 Bytes SRAM, 28-Pin PDIP 300mil, Extended VDD Range, Industrial Temperature; Manufacturer: Microchip; PartNumber: PIC16LF767-I/SP; Note: RB3 is the alternate pin for the CCP2 pin multiplexing.; DatasheetVersion: revC, Oct-2004; PackageVersion: revBB, Aug-2009; PackageReference: SPDIP300-SP28; PackageDescription: 28-Lead Skinny Plastic Dual In-Line (SP) - 300 mil Body [SPDIP]; Supplier 1: Digi-Key; Supplier Part Number 1: PIC16LF767-I/SP-ND; Supplier 2: Newark; Supplier Part Number 2: 61H5227; Supplier 3: Mouser; Supplier Part Number 3: 579-PIC16LF767-I/SP; ComponentLink1Description: Manufacturer URL; ComponentLink1URL: http://www.microchip.com/; ComponentLink2Description: Datasheet; ComponentLink2URL: http://ww1.microchip.com/downloads/en/DeviceDoc/30498c.pdf; ComponentLink3Description: Package Specification; ComponentLink3URL: http://www.microchip.com/stellent/groups/techpub_sg/documents/packagingspec/en012702.pdf
footprint SPDIP300-SP28 (DIP, 28-Leads, Row Spacing 7.62mm, Pitch 2.54mm, Body 34.9x6.8mm)
pins: 1 ~{MCLR}/VPP/RE3 (io), 2 RA0/AN0 (io), 3 RA1/AN1 (io), 4 RA2/AN2/VREF-/CVREF (io), 5 RA3/AN3/VREF+ (io), 6 RA4/T0CKI/C1OUT (io), 7 RA5/AN4/LVDIN/~{SS}/C2OUT (io), 8 VSS (power), 9 OSC1/CLKI/RA7 (io), 10 OSC2/CLKO/RA6 (io), 11 RC0/T1OSO/T1CKI (io), 12 RC1/T1OSI/CCP2 (io), 13 RC2/CCP1 (io), 14 RC3/SCK/SCL (io), 15 RC4/SDI/SDA (io), 16 RC5/SDO (io), 17 RC6/TX/CK (io), 18 RC7/RX/DT (io), 19 VSS (power), 20 VDD (power), 21 RB0/INT/AN12 (io), 22 RB1/AN10 (io), 23 RB2/AN8 (io), 24 RB3/CCP2/AN9 (io), 25 RB4/AN11 (io), 26 RB5/AN13/CCP3 (io), 27 RB6/PGC (io), 28 RB7/PGD (io)

## PIC16LF767-I/SS
designator U?
8-Bit CMOS FLASH Microcontroller with 10-Bit A/D and nanoWatt Technology, 8K (x14-Bit words) FLASH, 368 Bytes SRAM, 28-Pin SSOP, Extended VDD Range, Industrial Temperature; Manufacturer: Microchip; PartNumber: PIC16LF767-I/SS; DatasheetVersion: revC, Oct-2004; PackageVersion: revBB, Aug-2009; PackageReference: SSOP-SS28; PackageDescription: 28-Lead Plastic Shrink Small Outline (SS) - 5.3mm Body [SSOP]; Supplier 1: Digi-Key; Supplier Part Number 1: PIC16LF767-I/SS-ND; Supplier 2: Mouser; Supplier Part Number 2: 579-PIC16LF767-I/SS; Code_JEDEC: MS-150; ComponentLink1Description: Manufacturer URL; ComponentLink1URL: http://www.microchip.com/; ComponentLink2Description: Datasheet; ComponentLink2URL: http://ww1.microchip.com/downloads/en/DeviceDoc/30498c.pdf; ComponentLink3Description: Package Specification; ComponentLink3URL: http://www.microchip.com/stellent/groups/techpub_sg/documents/packagingspec/en012702.pdf
footprint SSOP-SS28_N (SOP, 28-Leads, Body 10.2x5.2mm, Pitch 0.65mm, IPC Medium Density)
footprint SSOP-SS28_L (SOP, 28-Leads, Body 10.2x5.2mm, Pitch 0.65mm, IPC High Density)
footprint SSOP-SS28_M (SOP, 28-Leads, Body 10.2x5.2mm, Pitch 0.65mm, IPC Low Density)
pins: 1 ~{MCLR}/VPP/RE3 (io), 2 RA0/AN0 (io), 3 RA1/AN1 (io), 4 RA2/AN2/VREF-/CVREF (io), 5 RA3/AN3/VREF+ (io), 6 RA4/T0CKI/C1OUT (io), 7 RA5/AN4/LVDIN/~{SS}/C2OUT (io), 8 VSS (power), 9 OSC1/CLKI/RA7 (io), 10 OSC2/CLKO/RA6 (io), 11 RC0/T1OSO/T1CKI (io), 12 RC1/T1OSI/CCP2 (io), 13 RC2/CCP1 (io), 14 RC3/SCK/SCL (io), 15 RC4/SDI/SDA (io), 16 RC5/SDO (io), 17 RC6/TX/CK (io), 18 RC7/RX/DT (io), 19 VSS (power), 20 VDD (power), 21 RB0/INT/AN12 (io), 22 RB1/AN10 (io), 23 RB2/AN8 (io), 24 RB3/CCP2/AN9 (io), 25 RB4/AN11 (io), 26 RB5/AN13/CCP3 (io), 27 RB6/PGC (io), 28 RB7/PGD (io)

## PIC16LF767T-I/ML
designator U?
8-Bit CMOS Flash Microcontroller with 10-Bit A/D and nanoWatt Technology, 8K (x14-Bit words) Program Memory, 368 Bytes Data Memory, 25 I/O pins, 28-Pin QFN, Extended VDD Range, Industrial Temperature, Tape and Reel; Manufacturer: Microchip; PartNumber: PIC16LF767T-I/ML; Note: RB3 is the alternate pin for the CCP2 pin multiplexing.; DatasheetVersion: revC, Oct-2004; PackageVersion: revBB, Aug-2009; PackageReference: QFN-ML28; PackageDescription: 28-Lead Plastic Quad Flat, No Lead Package (ML) - 6x6 mm Body [QFN] with 0.55 mm Contact Length; Supplier 1: Digi-Key; Supplier Part Number 1: PIC16LF767T-I/ML-ND; Supplier 2: Mouser; Supplier Part Number 2: 579-PIC16LF767T-I/ML; Code_JEDEC: MO-220; ComponentLink1Description: Manufacturer URL; ComponentLink1URL: http://www.microchip.com/; ComponentLink2Description: Datasheet; ComponentLink2URL: http://ww1.microchip.com/downloads/en/DeviceDoc/30498c.pdf; ComponentLink3Description: Package Specification; ComponentLink3URL: http://www.microchip.com/stellent/groups/techpub_sg/documents/packagingspec/en012702.pdf
footprint QFN-ML28_N (QFN, 28-Leads, Body 6x6mm, Pitch 0.65mm, Thermal Pad 4.2x4.2mm, IPC Medium Density)
footprint QFN-ML28_L (QFN, 28-Leads, Body 6x6mm, Pitch 0.65mm, Thermal Pad 4.2x4.2mm, IPC High Density)
footprint QFN-ML28_M (QFN, 28-Leads, Body 6x6mm, Pitch 0.65mm, Thermal Pad 4.2x4.2mm, IPC Low Density)
pins: 1 RA2/AN2/VREF-/CVREF (io), 2 RA3/AN3/VREF+ (io), 3 RA4/T0CKI/C1OUT (io), 4 RA5/AN4/LVDIN/~{SS}/C2OUT (io), 5 VSS (power), 6 OSC1/CLKI/RA7 (io), 7 OSC2/CLKO/RA6 (io), 8 RC0/T1OSO/T1CKI (io), 9 RC1/T1OSI/CCP2 (io), 10 RC2/CCP1 (io), 11 RC3/SCK/SCL (io), 12 RC4/SDI/SDA (io), 13 RC5/SDO (io), 14 RC6/TX/CK (io), 15 RC7/RX/DT (io), 16 VSS (power), 17 VDD (power), 18 RB0/INT/AN12 (io), 19 RB1/AN10 (io), 20 RB2/AN8 (io), 21 RB3/CCP2/AN9 (io), 22 RB4/AN11 (io), 23 RB5/AN13/CCP3 (io), 24 RB6/PGC (io), 25 RB7/PGD (io), 26 ~{MCLR}/VPP/RE3 (io), 27 RA0/AN0 (io), 28 RA1/AN1 (io), 29 Thermal Pad

## PIC16LF767T-I/SO
designator U?
8-Bit CMOS FLASH Microcontroller with 10-Bit A/D and nanoWatt Technology, 8K (x14-Bit words) FLASH, 368 Bytes SRAM, 28-Pin SOIC, Extended VDD Range, Industrial Temperature, Tape and Reel; Manufacturer: Microchip; PartNumber: PIC16LF767T-I/SO; Note: RB3 is the alternate pin for the CCP2 pin multiplexing.; DatasheetVersion: revC, Oct-2004; PackageVersion: revBB, Aug-2009; PackageReference: SOIC-SO28; PackageDescription: 28-Lead Plastic Small Outline (SO) - Wide 7.50mm Body [SOIC]; Supplier 1: Digi-Key; Supplier Part Number 1: PIC16LF767T-I/SO-ND; Supplier 2: Mouser; Supplier Part Number 2: 579-PIC16LF767T-I/SO; Code_JEDEC: MS-013; ComponentLink1Description: Manufacturer URL; ComponentLink1URL: http://www.microchip.com/; ComponentLink2Description: Datasheet; ComponentLink2URL: http://ww1.microchip.com/downloads/en/DeviceDoc/30498c.pdf; ComponentLink3Description: Package Specification; ComponentLink3URL: http://www.microchip.com/stellent/groups/techpub_sg/documents/packagingspec/en012702.pdf
footprint SOIC-SO28_N (SOIC, 28-Leads, Body 17.9x7.5mm, Pitch 1.27mm, IPC Medium Density)
footprint SOIC-SO28_L (SOIC, 28-Leads, Body 17.9x7.5mm, Pitch 1.27mm, IPC High Density)
footprint SOIC-SO28_M (SOIC, 28-Leads, Body 17.9x7.5mm, Pitch 1.27mm, IPC Low Density)
pins: 1 ~{MCLR}/VPP/RE3 (io), 2 RA0/AN0 (io), 3 RA1/AN1 (io), 4 RA2/AN2/VREF-/CVREF (io), 5 RA3/AN3/VREF+ (io), 6 RA4/T0CKI/C1OUT (io), 7 RA5/AN4/LVDIN/~{SS}/C2OUT (io), 8 VSS (power), 9 OSC1/CLKI/RA7 (io), 10 OSC2/CLKO/RA6 (io), 11 RC0/T1OSO/T1CKI (io), 12 RC1/T1OSI/CCP2 (io), 13 RC2/CCP1 (io), 14 RC3/SCK/SCL (io), 15 RC4/SDI/SDA (io), 16 RC5/SDO (io), 17 RC6/TX/CK (io), 18 RC7/RX/DT (io), 19 VSS (power), 20 VDD (power), 21 RB0/INT/AN12 (io), 22 RB1/AN10 (io), 23 RB2/AN8 (io), 24 RB3/CCP2/AN9 (io), 25 RB4/AN11 (io), 26 RB5/AN13/CCP3 (io), 27 RB6/PGC (io), 28 RB7/PGD (io)

## PIC16LF767T-I/SS
designator U?
8-Bit CMOS FLASH Microcontroller with 10-Bit A/D and nanoWatt Technology, 8K (x14-Bit words) FLASH, 368 Bytes SRAM, 28-Pin SSOP, Extended VDD Range, Industrial Temperature, Tape and Reel; Manufacturer: Microchip; PartNumber: PIC16LF767T-I/SS; DatasheetVersion: revC, Oct-2004; PackageVersion: revBB, Aug-2009; PackageReference: SSOP-SS28; PackageDescription: 28-Lead Plastic Shrink Small Outline (SS) - 5.3mm Body [SSOP]; Supplier 1: Digi-Key; Supplier Part Number 1: PIC16LF767T-I/SS-ND; Supplier 2: Mouser; Supplier Part Number 2: 579-PIC16LF767T-I/SS; Code_JEDEC: MS-150; ComponentLink1Description: Manufacturer URL; ComponentLink1URL: http://www.microchip.com/; ComponentLink2Description: Datasheet; ComponentLink2URL: http://ww1.microchip.com/downloads/en/DeviceDoc/30498c.pdf; ComponentLink3Description: Package Specification; ComponentLink3URL: http://www.microchip.com/stellent/groups/techpub_sg/documents/packagingspec/en012702.pdf
footprint SSOP-SS28_N (SOP, 28-Leads, Body 10.2x5.2mm, Pitch 0.65mm, IPC Medium Density)
footprint SSOP-SS28_L (SOP, 28-Leads, Body 10.2x5.2mm, Pitch 0.65mm, IPC High Density)
footprint SSOP-SS28_M (SOP, 28-Leads, Body 10.2x5.2mm, Pitch 0.65mm, IPC Low Density)
pins: 1 ~{MCLR}/VPP/RE3 (io), 2 RA0/AN0 (io), 3 RA1/AN1 (io), 4 RA2/AN2/VREF-/CVREF (io), 5 RA3/AN3/VREF+ (io), 6 RA4/T0CKI/C1OUT (io), 7 RA5/AN4/LVDIN/~{SS}/C2OUT (io), 8 VSS (power), 9 OSC1/CLKI/RA7 (io), 10 OSC2/CLKO/RA6 (io), 11 RC0/T1OSO/T1CKI (io), 12 RC1/T1OSI/CCP2 (io), 13 RC2/CCP1 (io), 14 RC3/SCK/SCL (io), 15 RC4/SDI/SDA (io), 16 RC5/SDO (io), 17 RC6/TX/CK (io), 18 RC7/RX/DT (io), 19 VSS (power), 20 VDD (power), 21 RB0/INT/AN12 (io), 22 RB1/AN10 (io), 23 RB2/AN8 (io), 24 RB3/CCP2/AN9 (io), 25 RB4/AN11 (io), 26 RB5/AN13/CCP3 (io), 27 RB6/PGC (io), 28 RB7/PGD (io)

## PIC16LF777-I/ML
designator U?
8-Bit CMOS FLASH Microcontroller with 10-Bit A/D and nanoWatt Technology, 8K (x14-Bit words) FLASH, 368 Bytes SRAM, 44-Pin QFN, Extended VDD Range, Industrial Temperature; Manufacturer: Microchip; PartNumber: PIC16LF777-I/ML; Note: RB3 is the alternate pin for the CCP2 pin multiplexing.; DatasheetVersion: revC, Oct-2004; PackageVersion: revBB, Aug-2009; PackageReference: QFN-ML44; PackageDescription: 44-Lead Plastic Quad Flat, No Lead Package (ML) - 8x8 mm Body [QFN]; Supplier 1: Digi-Key; Supplier Part Number 1: PIC16LF777-I/ML-ND; Supplier 2: Mouser; Supplier Part Number 2: 579-PIC16LF777-I/ML; Code_JEDEC: MO-220; Code_IPC: QFN65P800X800-44V2; ComponentLink1Description: Manufacturer URL; ComponentLink1URL: http://www.microchip.com/; ComponentLink2Description: Datasheet; ComponentLink2URL: http://ww1.microchip.com/downloads/en/DeviceDoc/30498c.pdf; ComponentLink3Description: Package Specification; ComponentLink3URL: http://www.microchip.com/stellent/groups/techpub_sg/documents/packagingspec/en012702.pdf
footprint QFN-ML44_N (QFN, 44-Leads, Body 8x8mm, Pitch 0.65mm, Thermal Pad 6.8x6.8mm, IPC Medium Density)
footprint QFN-ML44_L (QFN, 44-Leads, Body 8x8mm, Pitch 0.65mm, Thermal Pad 6.8x6.8mm, IPC High Density)
footprint QFN-ML44_M (QFN, 44-Leads, Body 8x8mm, Pitch 0.65mm, Thermal Pad 6.8x6.8mm, IPC Low Density)
pins: 1 RC7/RX/DT (io), 2 RD4/PSP4 (io), 3 RD5/PSP5 (io), 4 RD6/PSP6 (io), 5 RD7/PSP7 (io), 6 VSS (power), 7 VDD (power), 8 VDD (power), 9 RB0/INT/AN12 (io), 10 RB1/AN10 (io), 11 RB2/AN8 (io), 12 RB3/CCP2/AN9 (io), 13 NC, 14 RB4/AN11 (io), 15 RB5/AN13/CCP3 (io), 16 RB6/PGC (io), 17 RB7/PGD (io), 18 ~{MCLR}/VPP/RE3 (io), 19 RA0/AN0 (io), 20 RA1/AN1 (io), 21 RA2/AN2/VREF-/CVREF (io), 22 RA3/AN3/VREF+ (io), 23 RA4/T0CKI/C1OUT (io), 24 RA5/AN4/LVDIN/~{SS}/C2OUT (io), 25 RE0/~{RD}/AN5 (io), 26 RE1/~{WR}/AN6 (io), 27 RE2/~{CS}/AN7 (io), 28 VDD (power), 29 NC, 30 VSS (power), 31 VSS (power), 32 OSC1/CLKI/RA7 (io), 33 OSC2/CLKO/RA6 (io), 34 RC0/T1OSO/T1CKI (io), 35 RC1/T1OSI/CCP2 (io), 36 RC2/CCP1 (io), 37 RC3/SCK/SCL (io), 38 RD0/PSP0 (io), 39 RD1/PSP1 (io), 40 RD2/PSP2 (io), 41 RD3/PSP3 (io), 42 RC4/SDI/SDA (io), 43 RC5/SDO (io), 44 RC6/TX/CK (io), 45 Thermal Pad

## PIC16LF777-I/P
designator U?
8-Bit CMOS FLASH Microcontroller with 10-Bit A/D and nanoWatt Technology, 8K (x14-Bit words) FLASH, 368 Bytes SRAM, 40-Pin PDIP, Extended VDD Range, Industrial Temperature; Manufacturer: Microchip; PartNumber: PIC16LF777-I/P; Note: RB3 is the alternate pin for the CCP2 pin multiplexing.; DatasheetVersion: revC, Oct-2004; PackageVersion: revBB, Aug-2009; PackageReference: PDIP600-P40; PackageDescription: 40-Lead Plastic Dual In-Line (P) - 600 mil Body [PDIP]; Supplier 1: Digi-Key; Supplier Part Number 1: PIC16LF777-I/P-ND; Supplier 2: Newark; Supplier Part Number 2: 96K3899; Supplier 3: Mouser; Supplier Part Number 3: 579-PIC16LF777-I/P; ComponentLink1Description: Manufacturer URL; ComponentLink1URL: http://www.microchip.com/; ComponentLink2Description: Datasheet; ComponentLink2URL: http://ww1.microchip.com/downloads/en/DeviceDoc/30498c.pdf; ComponentLink3Description: Package Specification; ComponentLink3URL: http://www.microchip.com/stellent/groups/techpub_sg/documents/packagingspec/en012702.pdf
footprint PDIP600-P40 (DIP, 40-Leads, Row Spacing 15.24mm, Pitch 2.54mm, Body 51.8x13.5mm)
pins: 1 ~{MCLR}/VPP/RE3 (io), 2 RA0/AN0 (io), 3 RA1/AN1 (io), 4 RA2/AN2/VREF-/CVREF (io), 5 RA3/AN3/VREF+ (io), 6 RA4/T0CKI/C1OUT (io), 7 RA5/AN4/LVDIN/~{SS}/C2OUT (io), 8 RE0/~{RD}/AN5 (io), 9 RE1/~{WR}/AN6 (io), 10 RE2/~{CS}/AN7 (io), 11 VDD (power), 12 VSS (power), 13 OSC1/CLKI/RA7 (io), 14 OSC2/CLKO/RA6 (io), 15 RC0/T1OSO/T1CKI (io), 16 RC1/T1OSI/CCP2 (io), 17 RC2/CCP1 (io), 18 RC3/SCK/SCL (io), 19 RD0/PSP0 (io), 20 RD1/PSP1 (io), 21 RD2/PSP2 (io), 22 RD3/PSP3 (io), 23 RC4/SDI/SDA (io), 24 RC5/SDO (io), 25 RC6/TX/CK (io), 26 RC7/RX/DT (io), 27 RD4/PSP4 (io), 28 RD5/PSP5 (io), 29 RD6/PSP6 (io), 30 RD7/PSP7 (io), 31 VSS (power), 32 VDD (power), 33 RB0/INT/AN12 (io), 34 RB1/AN10 (io), 35 RB2/AN8 (io), 36 RB3/CCP2/AN9 (io), 37 RB4/AN11 (io), 38 RB5/AN13/CCP3 (io), 39 RB6/PGC (io), 40 RB7/PGD (io)

## PIC16LF777-I/PT
designator U?
8-Bit CMOS FLASH Microcontroller with 10-Bit A/D and nanoWatt Technology, 8K (x14-Bit words) FLASH, 368 Bytes SRAM, 44-Pin TQFP, Extended VDD Range, Industrial Temperature; Manufacturer: Microchip; PartNumber: PIC16LF777-I/PT; DatasheetVersion: revC, Oct-2004; PackageVersion: revBB, Aug-2009; PackageReference: TQFP-PT44; PackageDescription: 44-Lead Plastic Thin Quad Flatpack (PT) - 10x10x1mm Body, 2.00mm [TQFP]; Supplier 1: Digi-Key; Supplier Part Number 1: PIC16LF777-I/PT-ND; Supplier 2: Newark; Supplier Part Number 2: 61H5234; Supplier 3: Mouser; Supplier Part Number 3: 579-PIC16LF777-I/PT; Code_JEDEC: MS-026; ComponentLink1Description: Manufacturer URL; ComponentLink1URL: http://www.microchip.com/; ComponentLink2Description: Datasheet; ComponentLink2URL: http://ww1.microchip.com/downloads/en/DeviceDoc/30498c.pdf; ComponentLink3Description: Package Specification; ComponentLink3URL: http://www.microchip.com/stellent/groups/techpub_sg/documents/packagingspec/en012702.pdf
footprint TQFP-PT44_N (Thin QFP, 44-Leads, Body 10x10mm, Pitch 0.8mm, IPC Medium Density)
footprint TQFP-PT44_L (Thin QFP, 44-Leads, Body 10x10mm, Pitch 0.8mm, IPC High Density)
footprint TQFP-PT44_M (Thin QFP, 44-Leads, Body 10x10mm, Pitch 0.8mm, IPC Low Density)
pins: 1 RC7/RX/DT (io), 2 RD4/PSP4 (io), 3 RD5/PSP5 (io), 4 RD6/PSP6 (io), 5 RD7/PSP7 (io), 6 VSS (power), 7 VDD (power), 8 RB0/INT/AN12 (io), 9 RB1/AN10 (io), 10 RB2/AN8 (io), 11 RB3/CCP2/AN9 (io), 12 NC, 13 NC, 14 RB4/AN11 (io), 15 RB5/AN13/CCP3 (io), 16 RB6/PGC (io), 17 RB7/PGD (io), 18 ~{MCLR}/VPP/RE3 (io), 19 RA0/AN0 (io), 20 RA1/AN1 (io), 21 RA2/AN2/VREF-/CVREF (io), 22 RA3/AN3/VREF+ (io), 23 RA4/T0CKI/C1OUT (io), 24 RA5/AN4/LVDIN/~{SS}/C2OUT (io), 25 RE0/~{RD}/AN5 (io), 26 RE1/~{WR}/AN6 (io), 27 RE2/~{CS}/AN7 (io), 28 VDD (power), 29 VSS (power), 30 OSC1/CLKI/RA7 (io), 31 OSC2/CLKO/RA6 (io), 32 RC0/T1OSO/T1CKI (io), 33 NC, 34 NC, 35 RC1/T1OSI/CCP2 (io), 36 RC2/CCP1 (io), 37 RC3/SCK/SCL (io), 38 RD0/PSP0 (io), 39 RD1/PSP1 (io), 40 RD2/PSP2 (io), 41 RD3/PSP3 (io), 42 RC4/SDI/SDA (io), 43 RC5/SDO (io), 44 RC6/TX/CK (io)

## PIC16LF777T-I/ML
designator U?
8-Bit CMOS Flash Microcontroller with 10-Bit A/D and nanoWatt Technology, 8K (x14-Bit words) Program Memory, 368 Bytes Data Memory, 36 I/O pins, 44-Pin QFN, Extended VDD Range, Industrial Temperature, Tape and Reel; Manufacturer: Microchip; PartNumber: PIC16LF777T-I/ML; Note: RB3 is the alternate pin for the CCP2 pin multiplexing.; DatasheetVersion: revC, Oct-2004; PackageVersion: revBB, Aug-2009; PackageReference: QFN-ML44; PackageDescription: 44-Lead Plastic Quad Flat, No Lead Package (ML) - 8x8 mm Body [QFN]; Supplier 1: Digi-Key; Supplier Part Number 1: PIC16LF777T-I/ML-ND; Supplier 2: Mouser; Supplier Part Number 2: 579-PIC16LF777T-I/ML; Code_JEDEC: MO-220; Code_IPC: QFN65P800X800-44V2; ComponentLink1Description: Manufacturer URL; ComponentLink1URL: http://www.microchip.com/; ComponentLink2Description: Datasheet; ComponentLink2URL: http://ww1.microchip.com/downloads/en/DeviceDoc/30498c.pdf; ComponentLink3Description: Package Specification; ComponentLink3URL: http://www.microchip.com/stellent/groups/techpub_sg/documents/packagingspec/en012702.pdf
footprint QFN-ML44_N (QFN, 44-Leads, Body 8x8mm, Pitch 0.65mm, Thermal Pad 6.8x6.8mm, IPC Medium Density)
footprint QFN-ML44_L (QFN, 44-Leads, Body 8x8mm, Pitch 0.65mm, Thermal Pad 6.8x6.8mm, IPC High Density)
footprint QFN-ML44_M (QFN, 44-Leads, Body 8x8mm, Pitch 0.65mm, Thermal Pad 6.8x6.8mm, IPC Low Density)
pins: 1 RC7/RX/DT (io), 2 RD4/PSP4 (io), 3 RD5/PSP5 (io), 4 RD6/PSP6 (io), 5 RD7/PSP7 (io), 6 VSS (power), 7 VDD (power), 8 VDD (power), 9 RB0/INT/AN12 (io), 10 RB1/AN10 (io), 11 RB2/AN8 (io), 12 RB3/CCP2/AN9 (io), 13 NC, 14 RB4/AN11 (io), 15 RB5/AN13/CCP3 (io), 16 RB6/PGC (io), 17 RB7/PGD (io), 18 ~{MCLR}/VPP/RE3 (io), 19 RA0/AN0 (io), 20 RA1/AN1 (io), 21 RA2/AN2/VREF-/CVREF (io), 22 RA3/AN3/VREF+ (io), 23 RA4/T0CKI/C1OUT (io), 24 RA5/AN4/LVDIN/~{SS}/C2OUT (io), 25 RE0/~{RD}/AN5 (io), 26 RE1/~{WR}/AN6 (io), 27 RE2/~{CS}/AN7 (io), 28 VDD (power), 29 NC, 30 VSS (power), 31 VSS (power), 32 OSC1/CLKI/RA7 (io), 33 OSC2/CLKO/RA6 (io), 34 RC0/T1OSO/T1CKI (io), 35 RC1/T1OSI/CCP2 (io), 36 RC2/CCP1 (io), 37 RC3/SCK/SCL (io), 38 RD0/PSP0 (io), 39 RD1/PSP1 (io), 40 RD2/PSP2 (io), 41 RD3/PSP3 (io), 42 RC4/SDI/SDA (io), 43 RC5/SDO (io), 44 RC6/TX/CK (io), 45 Thermal Pad

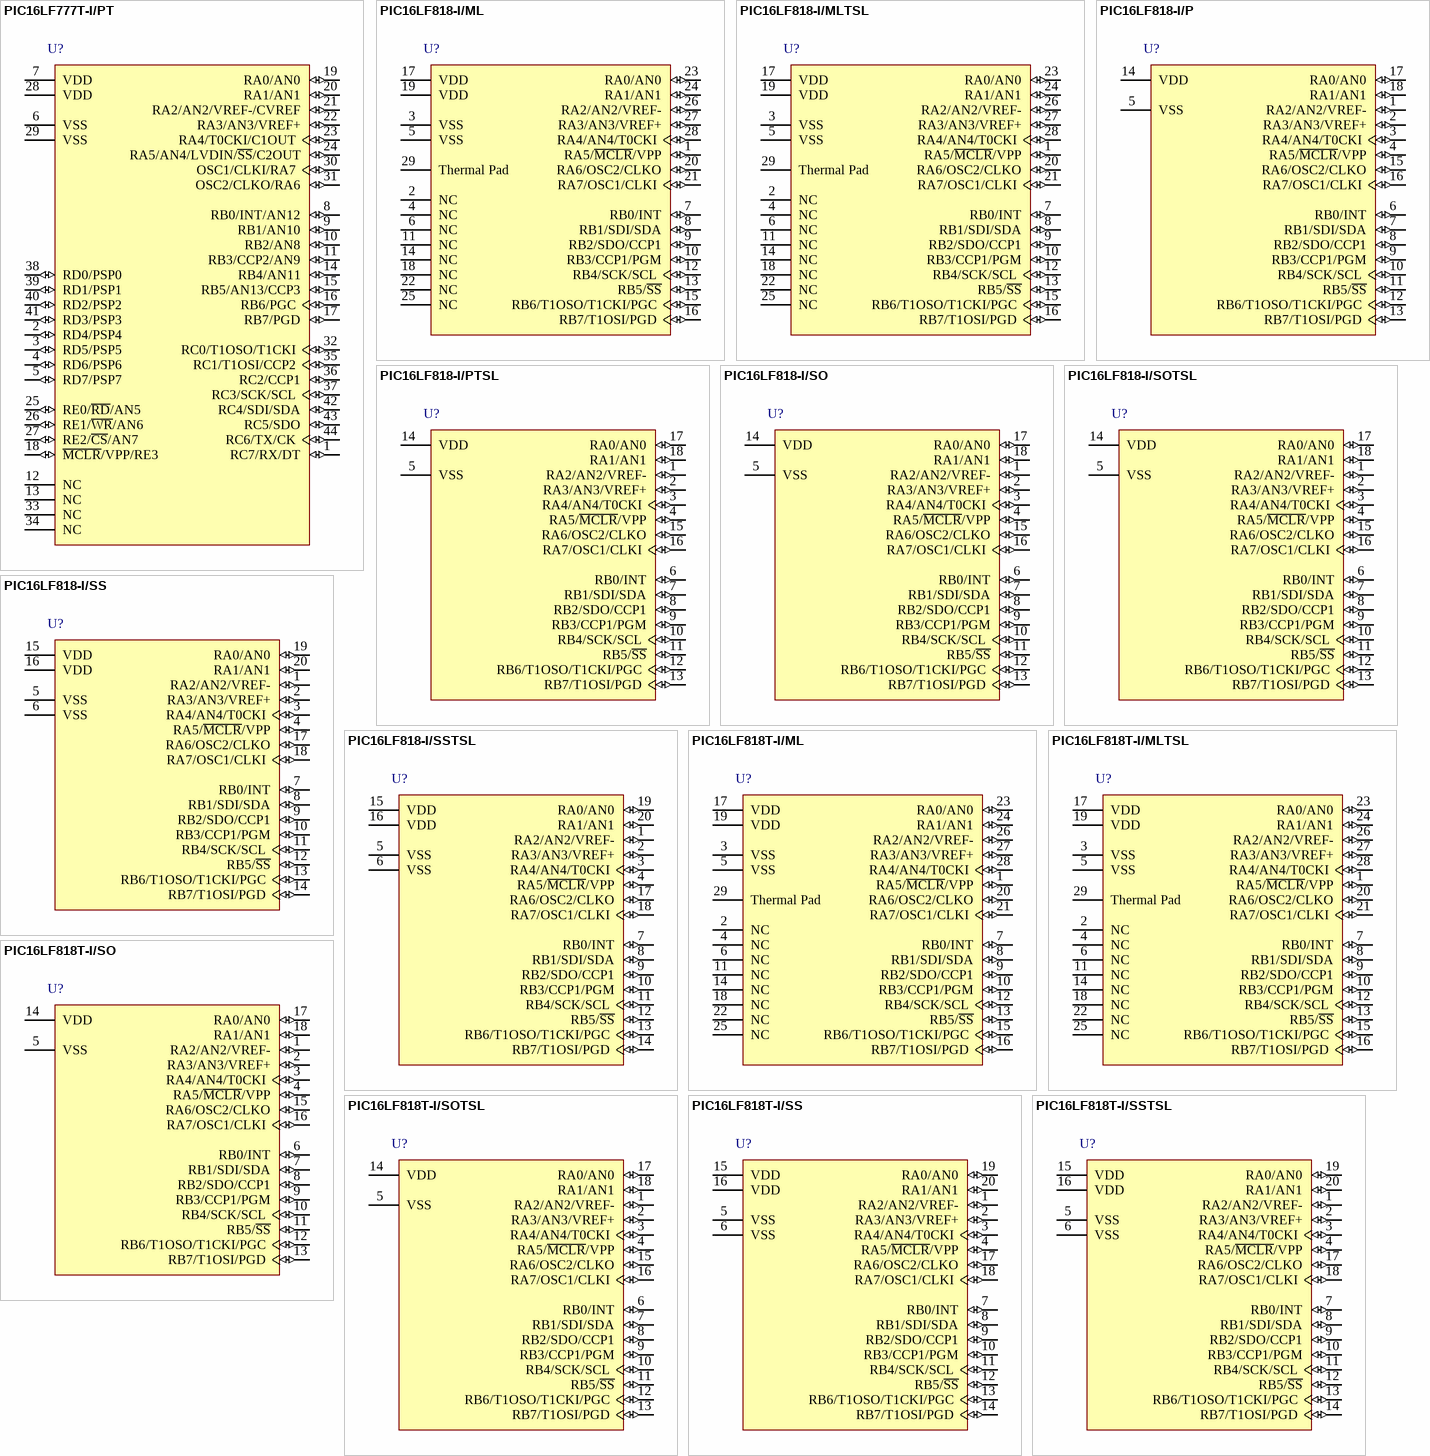
[diagram p111: symbols PIC16LF777T-I/PT to PIC16LF818T-I/SSTSL]

## PIC16LF777T-I/PT
designator U?
8-Bit CMOS FLASH Microcontroller with 10-Bit A/D and nanoWatt Technology, 8K (x14-Bit words) FLASH, 368 Bytes SRAM, 44-Pin TQFP, Extended VDD Range, Industrial Temperature, Tape and Reel; Manufacturer: Microchip; PartNumber: PIC16LF777T-I/PT; DatasheetVersion: revC, Oct-2004; PackageVersion: revBB, Aug-2009; PackageReference: TQFP-PT44; PackageDescription: 44-Lead Plastic Thin Quad Flatpack (PT) - 10x10x1mm Body, 2.00mm [TQFP]; Supplier 1: Digi-Key; Supplier Part Number 1: PIC16LF777T-I/PT-ND; Supplier 2: Mouser; Supplier Part Number 2: 579-PIC16LF777T-I/PT; Code_JEDEC: MS-026; ComponentLink1Description: Manufacturer URL; ComponentLink1URL: http://www.microchip.com/; ComponentLink2Description: Datasheet; ComponentLink2URL: http://ww1.microchip.com/downloads/en/DeviceDoc/30498c.pdf; ComponentLink3Description: Package Specification; ComponentLink3URL: http://www.microchip.com/stellent/groups/techpub_sg/documents/packagingspec/en012702.pdf
footprint TQFP-PT44_N (Thin QFP, 44-Leads, Body 10x10mm, Pitch 0.8mm, IPC Medium Density)
footprint TQFP-PT44_L (Thin QFP, 44-Leads, Body 10x10mm, Pitch 0.8mm, IPC High Density)
footprint TQFP-PT44_M (Thin QFP, 44-Leads, Body 10x10mm, Pitch 0.8mm, IPC Low Density)
pins: 1 RC7/RX/DT (io), 2 RD4/PSP4 (io), 3 RD5/PSP5 (io), 4 RD6/PSP6 (io), 5 RD7/PSP7 (io), 6 VSS (power), 7 VDD (power), 8 RB0/INT/AN12 (io), 9 RB1/AN10 (io), 10 RB2/AN8 (io), 11 RB3/CCP2/AN9 (io), 12 NC, 13 NC, 14 RB4/AN11 (io), 15 RB5/AN13/CCP3 (io), 16 RB6/PGC (io), 17 RB7/PGD (io), 18 ~{MCLR}/VPP/RE3 (io), 19 RA0/AN0 (io), 20 RA1/AN1 (io), 21 RA2/AN2/VREF-/CVREF (io), 22 RA3/AN3/VREF+ (io), 23 RA4/T0CKI/C1OUT (io), 24 RA5/AN4/LVDIN/~{SS}/C2OUT (io), 25 RE0/~{RD}/AN5 (io), 26 RE1/~{WR}/AN6 (io), 27 RE2/~{CS}/AN7 (io), 28 VDD (power), 29 VSS (power), 30 OSC1/CLKI/RA7 (io), 31 OSC2/CLKO/RA6 (io), 32 RC0/T1OSO/T1CKI (io), 33 NC, 34 NC, 35 RC1/T1OSI/CCP2 (io), 36 RC2/CCP1 (io), 37 RC3/SCK/SCL (io), 38 RD0/PSP0 (io), 39 RD1/PSP1 (io), 40 RD2/PSP2 (io), 41 RD3/PSP3 (io), 42 RC4/SDI/SDA (io), 43 RC5/SDO (io), 44 RC6/TX/CK (io)

## PIC16LF818-I/ML
designator U?
Enhanced FLASH Microcontroller with nanoWatt Technology, 1K (x14-Bit words) FLASH, 128 Bytes RAM, 28-Pin QFN, Extended VDD Range, Industrial Temperature; Manufacturer: Microchip; PartNumber: PIC16LF818-I/ML; DatasheetVersion: revE, Sep-2004; PackageVersion: revBB, Aug-2009; PackageReference: QFN-ML28; PackageDescription: 28-Lead Plastic Quad Flat, No Lead Package (ML) - 6x6 mm Body [QFN] with 0.55 mm Contact Length; Supplier 1: Digi-Key; Supplier Part Number 1: PIC16LF818-I/ML-ND; Supplier 2: Mouser; Supplier Part Number 2: 579-PIC16LF818-I/ML; Code_JEDEC: MO-220; ComponentLink1Description: Manufacturer URL; ComponentLink1URL: http://www.microchip.com/; ComponentLink2Description: Datasheet; ComponentLink2URL: http://ww1.microchip.com/downloads/en/DeviceDoc/39598e.pdf; ComponentLink3Description: Package Specification; ComponentLink3URL: http://www.microchip.com/stellent/groups/techpub_sg/documents/packagingspec/en012702.pdf
footprint QFN-ML28_N (QFN, 28-Leads, Body 6x6mm, Pitch 0.65mm, Thermal Pad 4.2x4.2mm, IPC Medium Density)
footprint QFN-ML28_L (QFN, 28-Leads, Body 6x6mm, Pitch 0.65mm, Thermal Pad 4.2x4.2mm, IPC High Density)
footprint QFN-ML28_M (QFN, 28-Leads, Body 6x6mm, Pitch 0.65mm, Thermal Pad 4.2x4.2mm, IPC Low Density)
pins: 1 RA5/~{MCLR}/VPP (io), 2 NC, 3 VSS (power), 4 NC, 5 VSS (power), 6 NC, 7 RB0/INT (io), 8 RB1/SDI/SDA (io), 9 RB2/SDO/CCP1 (io), 10 RB3/CCP1/PGM (io), 11 NC, 12 RB4/SCK/SCL (io), 13 RB5/~{SS} (io), 14 NC, 15 RB6/T1OSO/T1CKI/PGC (io), 16 RB7/T1OSI/PGD (io), 17 VDD (power), 18 NC, 19 VDD (power), 20 RA6/OSC2/CLKO (io), 21 RA7/OSC1/CLKI (io), 22 NC, 23 RA0/AN0 (io), 24 RA1/AN1 (io), 25 NC, 26 RA2/AN2/VREF- (io), 27 RA3/AN3/VREF+ (io), 28 RA4/AN4/T0CKI (io), 29 Thermal Pad

## PIC16LF818-I/MLTSL
designator U?
Enhanced Flash Microcontroller with nanoWatt Technology, 1K (x14-Bit words) Program Memory, 256 Bytes Data Memory, 16 I/O pins, 28-Pin QFN, Extended VDD Range, Industrial Temperature; Manufacturer: Microchip; PartNumber: PIC16LF818-I/MLTSL; DatasheetVersion: revE, Sep-2004; PackageVersion: revBB, Aug-2009; PackageReference: QFN-ML28; PackageDescription: 28-Lead Plastic Quad Flat, No Lead Package (ML) - 6x6 mm Body [QFN] with 0.55 mm Contact Length; Supplier 1: Digi-Key; Supplier Part Number 1: PIC16LF818-IMLTSL-ND; Supplier 2: Mouser; Supplier Part Number 2: 579-PIC16LF818IMLTSL; Code_JEDEC: MO-220; ComponentLink1Description: Manufacturer URL; ComponentLink1URL: http://www.microchip.com/; ComponentLink2Description: Datasheet; ComponentLink2URL: http://ww1.microchip.com/downloads/en/DeviceDoc/39598e.pdf; ComponentLink3Description: Package Specification; ComponentLink3URL: http://www.microchip.com/stellent/groups/techpub_sg/documents/packagingspec/en012702.pdf
footprint QFN-ML28_N (QFN, 28-Leads, Body 6x6mm, Pitch 0.65mm, Thermal Pad 4.2x4.2mm, IPC Medium Density)
footprint QFN-ML28_L (QFN, 28-Leads, Body 6x6mm, Pitch 0.65mm, Thermal Pad 4.2x4.2mm, IPC High Density)
footprint QFN-ML28_M (QFN, 28-Leads, Body 6x6mm, Pitch 0.65mm, Thermal Pad 4.2x4.2mm, IPC Low Density)
pins: 1 RA5/~{MCLR}/VPP (io), 2 NC, 3 VSS (power), 4 NC, 5 VSS (power), 6 NC, 7 RB0/INT (io), 8 RB1/SDI/SDA (io), 9 RB2/SDO/CCP1 (io), 10 RB3/CCP1/PGM (io), 11 NC, 12 RB4/SCK/SCL (io), 13 RB5/~{SS} (io), 14 NC, 15 RB6/T1OSO/T1CKI/PGC (io), 16 RB7/T1OSI/PGD (io), 17 VDD (power), 18 NC, 19 VDD (power), 20 RA6/OSC2/CLKO (io), 21 RA7/OSC1/CLKI (io), 22 NC, 23 RA0/AN0 (io), 24 RA1/AN1 (io), 25 NC, 26 RA2/AN2/VREF- (io), 27 RA3/AN3/VREF+ (io), 28 RA4/AN4/T0CKI (io), 29 Thermal Pad

## PIC16LF818-I/P
designator U?
Enhanced FLASH Microcontroller with nanoWatt Technology, 1K (x14-Bit words) FLASH, 128 Bytes RAM, 18-Pin PDIP, Extended VDD Range, Industrial Temperature; Manufacturer: Microchip; PartNumber: PIC16LF818-I/P; DatasheetVersion: revE, Sep-2004; PackageVersion: revBB, Aug-2009; PackageReference: PDIP300-P18; PackageDescription: 18-Lead Plastic Dual In-Line (P) - 300 mil Body [PDIP]; Supplier 1: Digi-Key; Supplier Part Number 1: PIC16LF818-I/P-ND; Supplier 2: Newark; Supplier Part Number 2: 96K3900; Supplier 3: Mouser; Supplier Part Number 3: 579-PIC16LF818-I/P; Code_JEDEC: MS-001; ComponentLink1Description: Manufacturer URL; ComponentLink1URL: http://www.microchip.com/; ComponentLink2Description: Datasheet; ComponentLink2URL: http://ww1.microchip.com/downloads/en/DeviceDoc/39598e.pdf; ComponentLink3Description: Package Specification; ComponentLink3URL: http://www.microchip.com/stellent/groups/techpub_sg/documents/packagingspec/en012702.pdf
footprint PDIP300-P18 (DIP, 18-Leads, Row Spacing 7.62mm, Pitch 2.54mm, Body 22.9x6.6mm)
pins: 1 RA2/AN2/VREF- (io), 2 RA3/AN3/VREF+ (io), 3 RA4/AN4/T0CKI (io), 4 RA5/~{MCLR}/VPP (io), 5 VSS (power), 6 RB0/INT (io), 7 RB1/SDI/SDA (io), 8 RB2/SDO/CCP1 (io), 9 RB3/CCP1/PGM (io), 10 RB4/SCK/SCL (io), 11 RB5/~{SS} (io), 12 RB6/T1OSO/T1CKI/PGC (io), 13 RB7/T1OSI/PGD (io), 14 VDD (power), 15 RA6/OSC2/CLKO (io), 16 RA7/OSC1/CLKI (io), 17 RA0/AN0 (io), 18 RA1/AN1 (io)